# Altium schematic symbol library ATMEL ATTINY25_45_85 20PIN.SchLib: 1 symbol
Pins are listed as number, name and electrical type; pins without a type are passive.

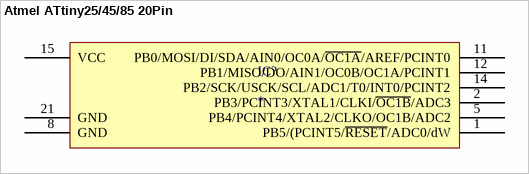
[diagram p0: symbol Atmel ATtiny25/45/85 20Pin]

## Atmel ATtiny25/45/85 20Pin
designator IC?
Atmel 8-bit AVR Microcontroller with 2/4/8K  Bytes In-System Programmable Flash
pins: 1 PB5/(PCINT5/~{RESET}/ADC0/dW, 2 PB3/PCINT3/XTAL1/CLKI/~{OC1B}/ADC3, 5 PB4/PCINT4/XTAL2/CLKO/OC1B/ADC2, 8 GND, 11 PB0/MOSI/DI/SDA/AIN0/OC0A/~{OC1A}/AREF/PCINT0, 12 PB1/MISO/DO/AIN1/OC0B/OC1A/PCINT1, 14 PB2/SCK/USCK/SCL/ADC1/T0/INT0/PCINT2, 15 VCC, 21 GND